# EAGLE library part 61300621121 (library Wuerth_Elektronik_eiCan_Pin_&_Socked_Headers_v1.3)
WR-PHD 2.54mm Dual Pin Header, 6 Pins
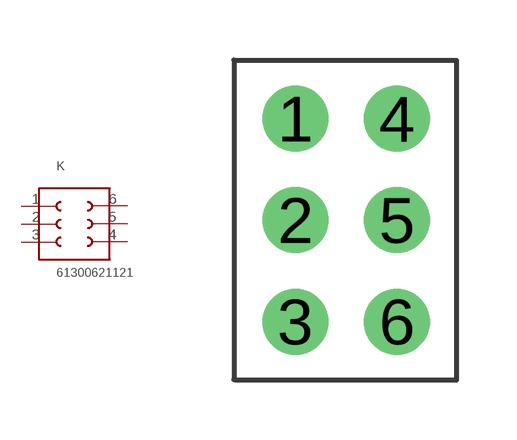
[diagram p18: symbol with the pads of 61300621121; footprint 61300621121]

Designator prefix K

## 61300621121  [61300621121]
1  1  pas
2  2  pas
3  3  pas
4  4  pas
5  5  pas
6  6  pas

## Footprint 61300621121 (pad centres in mm)
WR-PHD 2.54mm Dual Pin Header, 6 Pins
drill 1.1 round: 1 0,2.54; 2 0,0; 3 0,-2.54; 4 2.54,2.54; 5 2.54,0; 6 2.54,-2.54